# Altium footprint library MIC2937A-12WU-TR.PcbLib: 3 footprints
Each footprint in its own frame and in the unit in brackets; x right, y up, seen from the top. Pads: shape width x height; smd on the part's side, far side on the other; paste and mask are expansions set on the pad; w line width, h text height; cw(c..) or ccw(c..) is an arc to the next point about the centre after c.
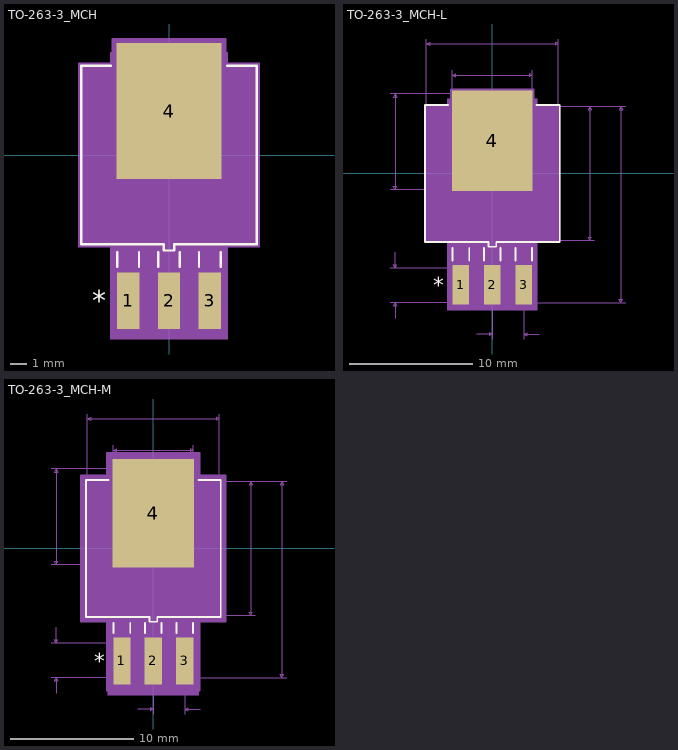
[diagram p0: the footprints below, top view; thin cyan lines are the x and y axes]

## TO-263-3_MCH [mil]
pads (4):
  rect 54.97x137.56 smd paste+0 mask+0: 1(-100,-356.5) 2(0,-356.5) 3(100,-356.5)
  rect 258x333 smd paste+0 mask+0: 4(0,108)
Top Overlay:
  lines w6: -142.1,218.5 -215,218.5 -215,-218.5 -12.5,-218.5 -12.5,-233.5 12.5,-233.5 12.5,-218.5 215,-218.5 215,218.5 142.1,218.5 ; -126.5,-273.72 -126.5,-237.5 ; -73.5,-273.72 -73.5,-237.5 ; -26.5,-273.72 -26.5,-237.5 ; 26.5,-273.72 26.5,-237.5 ; 73.5,-273.72 73.5,-237.5 ; 126.5,-273.72 126.5,-237.5
  text "*" at -187.5,-381.5 h50
Mechanical 5:
  region: -144,252.5 144,252.5 144,-450.28 -144,-450.28
Mechanical 13:
  lines w1: -210,-213.5 -210,213.5 210,213.5 210,-213.5 -210,-213.5 ; -126.5,-411.5 -73.5,-411.5 -73.5,-213.5 -126.5,-213.5 -126.5,-411.5 ; -26.5,-411.5 26.5,-411.5 26.5,-213.5 -26.5,-213.5 -26.5,-411.5 ; -7.5,-228.5 7.5,-228.5 7.5,-213.5 -7.5,-213.5 -7.5,-228.5 ; 73.5,-411.5 126.5,-411.5 126.5,-213.5 73.5,-213.5 73.5,-411.5
  text "*" at -112.5,-228.5 h50
Mechanical 15:
  region: -220,-223.5 -220,223.5 -138,223.5 -138,284.5 138,284.5 138,223.5 220,223.5 220,-223.5 137.48,-223.5 137.48,-435.28 -137.48,-435.28 -137.48,-223.5
  lines w6: -220,-223.5 -137.48,-223.5 -137.48,-435.28 137.48,-435.28 137.48,-223.5 220,-223.5 220,223.5 138,223.5 138,284.5 -138,284.5 -138,223.5 -220,223.5 -220,-223.5
3D body "TO-263-3_MCH.step": height 181.1, standoff -2.01, extent -210,-411.5 210,253.5

## TO-263-3_MCH-L [mil]
pads (4):
  rect 53x125.75 smd paste+0 mask+0: 1(-100,-354.53) 2(0,-354.53) 3(100,-354.53)
  rect 256x321 smd paste+0 mask+0: 4(0,104)
Top Overlay:
  lines w6: -141.1,218.5 -215,218.5 -215,-218.5 -12.5,-218.5 -12.5,-233.5 12.5,-233.5 12.5,-218.5 215,-218.5 215,218.5 141.1,218.5 ; -126.5,-277.66 -126.5,-237.5 ; -73.5,-277.66 -73.5,-237.5 ; -26.5,-277.66 -26.5,-237.5 ; 26.5,-277.66 26.5,-237.5 ; 73.5,-277.66 73.5,-237.5 ; 126.5,-277.66 126.5,-237.5
  text "*" at -187.5,-379.53 h50
Mechanical 5:
  region: -143,238.5 143,238.5 143,-436.41 -143,-436.41
Mechanical 7:
  lines w1: -325,-411.5 0,-411.5 425,-411.5 ; -325,-301.5 0,-301.5 ; -325,-51.5 0,-51.5 ; -325,253.5 0,253.5 ; -310,-461.5 -310,-411.5 ; -310,-251.5 -310,-301.5 ; -210,0 -210,428.5 ; -128,0 -128,328.5 ; -50,-512.5 0,-512.5 ; 0,-527.5 0,-312.5 ; 0,-213.5 325,-213.5 ; 100,-527.5 100,-312.5 ; 128,0 128,328.5 ; 150,-512.5 100,-512.5 ; 210,0 210,428.5 ; 325,213.5 0,213.5 425,213.5 ; -310,-411.5 -315,-421.5 -305,-421.5 -310,-411.5 ; -310,-301.5 -315,-291.5 -305,-291.5 -310,-301.5 ; -310,-51.5 -310,253.5 ; -310,-51.5 -315,-41.5 -305,-41.5 -310,-51.5 ; -310,253.5 -315,243.5 -305,243.5 -310,253.5 ; -210,413.5 210,413.5 ; -210,413.5 -200,418.5 -200,408.5 -210,413.5 ; -128,313.5 128,313.5 ; -128,313.5 -118,318.5 -118,308.5 -128,313.5 ; 0,-512.5 -10,-507.5 -10,-517.5 0,-512.5 ; 100,-512.5 110,-507.5 110,-517.5 100,-512.5 ; 128,313.5 118,318.5 118,308.5 128,313.5 ; 210,413.5 200,418.5 200,408.5 210,413.5 ; 310,-213.5 310,213.5 ; 310,-213.5 305,-203.5 315,-203.5 310,-213.5 ; 310,213.5 305,203.5 315,203.5 310,213.5 ; 410,-411.5 410,213.5 ; 410,-411.5 405,-401.5 415,-401.5 410,-411.5 ; 410,213.5 405,203.5 415,203.5 410,213.5
  text "Default Padstyle: r135_319" at -325,-761.5 h50
  text "Large Padstyle: r650_815" at -300,-836.5 h50
  text "Alt 1 Padstyle: b152_229h76" at -337.5,-911.5 h50
  text "Alt 2 Padstyle: b229_152h76" at -337.5,-986.5 h50
  text "0.427in/10.846mm" at 330,-12.5 h25
  text "0.305in/7.747mm" at -517.5,88.5 h25
  text "0.42in/10.668mm" at -93.75,433.5 h25
  text "0.256in/6.502mm" at -93.75,333.5 h25
  text "0.625in/15.875mm" at 430,-153.53 h25
  text "0.11in/2.794mm" at -505,-369 h25
  text "0.1in/2.54mm" at -25,-557.5 h25
Mechanical 13:
  lines w1: -210,-213.5 210,-213.5 210,213.5 -210,213.5 -210,-213.5 ; -126.5,-411.5 -126.5,-213.5 -73.5,-213.5 -73.5,-411.5 -126.5,-411.5 ; -26.5,-411.5 -26.5,-213.5 26.5,-213.5 26.5,-411.5 -26.5,-411.5 ; -7.5,-228.5 -7.5,-213.5 7.5,-213.5 7.5,-228.5 -7.5,-228.5 ; 73.5,-411.5 73.5,-213.5 126.5,-213.5 126.5,-411.5 73.5,-411.5
  text "*" at -112.5,-228.5 h50
Mechanical 15:
  region: -214,-217.5 -214,217.5 -132,217.5 -132,268.5 132,268.5 132,217.5 214,217.5 214,-217.5 130.5,-217.5 130.5,-421.41 -130.5,-421.41 -130.5,-217.5
  lines w6: -214,-217.5 -214,217.5 -132,217.5 -132,268.5 132,268.5 132,217.5 214,217.5 214,-217.5 130.5,-217.5 130.5,-421.41 -130.5,-421.41 -130.5,-217.5 -214,-217.5
3D body "TO-263-3_MCH.step": height 181.1, standoff -2.01, extent -210,-411.5 210,253.5

## TO-263-3_MCH-M [mil]
pads (4):
  rect 54.97x149.37 smd paste+0 mask+0: 1(-100,-358.47) 2(0,-358.47) 3(100,-358.47)
  rect 260x345 smd paste+0 mask+0: 4(0,112)
Top Overlay:
  lines w6: -143.1,218.5 -215,218.5 -215,-218.5 -12.5,-218.5 -12.5,-233.5 12.5,-233.5 12.5,-218.5 215,-218.5 215,218.5 143.1,218.5 ; -126.5,-269.78 -126.5,-237.5 ; -73.5,-269.78 -73.5,-237.5 ; -26.5,-269.78 -26.5,-237.5 ; 26.5,-269.78 26.5,-237.5 ; 73.5,-269.78 73.5,-237.5 ; 126.5,-269.78 126.5,-237.5
  text "*" at -187.5,-383.47 h50
Mechanical 5:
  region: -145,270.5 145,270.5 145,-468.15 -145,-468.15
Mechanical 7:
  lines w1: -325,-411.5 0,-411.5 425,-411.5 ; -325,-301.5 0,-301.5 ; -325,-51.5 0,-51.5 ; -325,253.5 0,253.5 ; -310,-461.5 -310,-411.5 ; -310,-251.5 -310,-301.5 ; -210,0 -210,428.5 ; -128,0 -128,328.5 ; -50,-512.5 0,-512.5 ; 0,-527.5 0,-312.5 ; 0,-213.5 325,-213.5 ; 100,-527.5 100,-312.5 ; 128,0 128,328.5 ; 150,-512.5 100,-512.5 ; 210,0 210,428.5 ; 325,213.5 0,213.5 425,213.5 ; -310,-411.5 -315,-421.5 -305,-421.5 -310,-411.5 ; -310,-301.5 -315,-291.5 -305,-291.5 -310,-301.5 ; -310,-51.5 -310,253.5 ; -310,-51.5 -315,-41.5 -305,-41.5 -310,-51.5 ; -310,253.5 -315,243.5 -305,243.5 -310,253.5 ; -210,413.5 210,413.5 ; -210,413.5 -200,418.5 -200,408.5 -210,413.5 ; -128,313.5 128,313.5 ; -128,313.5 -118,318.5 -118,308.5 -128,313.5 ; 0,-512.5 -10,-507.5 -10,-517.5 0,-512.5 ; 100,-512.5 110,-507.5 110,-517.5 100,-512.5 ; 128,313.5 118,318.5 118,308.5 128,313.5 ; 210,413.5 200,418.5 200,408.5 210,413.5 ; 310,-213.5 310,213.5 ; 310,-213.5 305,-203.5 315,-203.5 310,-213.5 ; 310,213.5 305,203.5 315,203.5 310,213.5 ; 410,-411.5 410,213.5 ; 410,-411.5 405,-401.5 415,-401.5 410,-411.5 ; 410,213.5 405,203.5 415,203.5 410,213.5
  text "Default Padstyle: r140_379" at -325,-761.5 h50
  text "Large Padstyle: r660_876" at -300,-836.5 h50
  text "Alt 1 Padstyle: b152_229h76" at -337.5,-911.5 h50
  text "Alt 2 Padstyle: b229_152h76" at -337.5,-986.5 h50
  text "0.427in/10.846mm" at 330,-12.5 h25
  text "0.305in/7.747mm" at -517.5,88.5 h25
  text "0.42in/10.668mm" at -93.75,433.5 h25
  text "0.256in/6.502mm" at -93.75,333.5 h25
  text "0.625in/15.875mm" at 430,-157.47 h25
  text "0.11in/2.794mm" at -505,-369 h25
  text "0.1in/2.54mm" at -25,-557.5 h25
Mechanical 13:
  lines w1: -210,-213.5 210,-213.5 210,213.5 -210,213.5 -210,-213.5 ; -126.5,-411.5 -126.5,-213.5 -73.5,-213.5 -73.5,-411.5 -126.5,-411.5 ; -26.5,-411.5 -26.5,-213.5 26.5,-213.5 26.5,-411.5 -26.5,-411.5 ; -7.5,-228.5 -7.5,-213.5 7.5,-213.5 7.5,-228.5 -7.5,-228.5 ; 73.5,-411.5 73.5,-213.5 126.5,-213.5 126.5,-411.5 73.5,-411.5
  text "*" at -112.5,-228.5 h50
Mechanical 15:
  region: -230,-233.5 -230,233.5 -148,233.5 -148,304.5 148,304.5 148,233.5 230,233.5 230,-233.5 147.48,-233.5 147.48,-453.15 -147.48,-453.15 -147.48,-233.5
  lines w6: -230,-233.5 -230,233.5 -148,233.5 -148,304.5 148,304.5 148,233.5 230,233.5 230,-233.5 147.48,-233.5 147.48,-453.15 -147.48,-453.15 -147.48,-233.5 -230,-233.5
3D body "TO-263-3_MCH.step": height 181.1, standoff -2.01, extent -210,-411.5 210,253.5